# Altium schematic symbol library 686 1xx 144 22.SchLib: 17 symbols
Pins are listed as number, name and electrical type; pins without a type are passive.

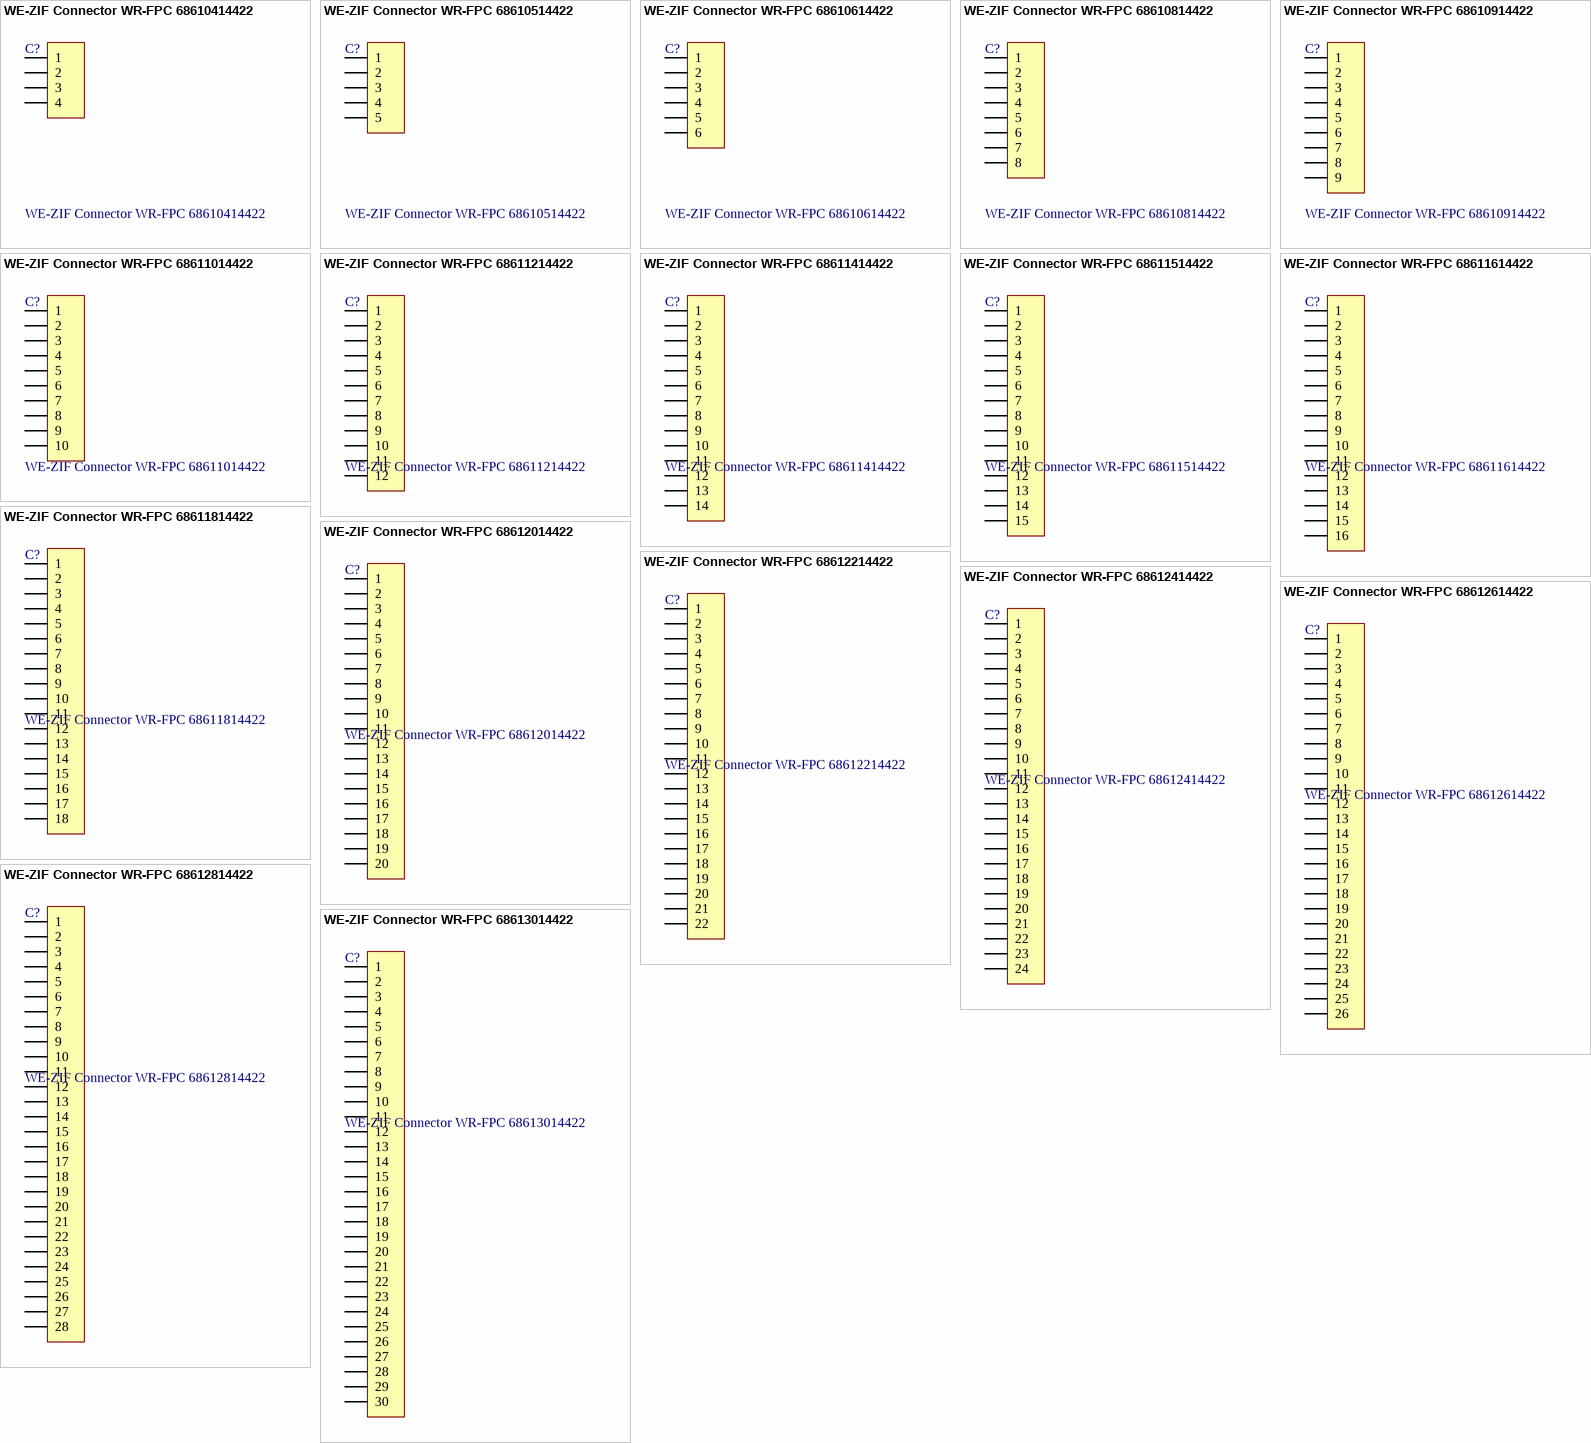
[diagram p0: symbols WE-ZIF Connector WR-FPC 68610414422 to WE-ZIF Connector WR-FPC 68613014422]

## WE-ZIF Connector WR-FPC 68610414422
designator C?
WR-FPC 1.00mm SMT ZIF Horizontal Bottom Contact; Manufacturer: Würth Elektronik eiSos GmbH; ComponentLink1 Description: Manufacturer; ComponentLink2 Description: Datasheet; NoPins: 04; Created Date: 9 October 2013; partNo: 68610414422; ComponentLink1URL: http://www.we-online.com; ComponentLink2URL: http://katalog.we-online.de/em/datasheet/6861xx14422.pdf; Created by: Karrer Zheng
footprint 68610414422 (4 pins)
pins: 1, 2, 3, 4

## WE-ZIF Connector WR-FPC 68610514422
designator C?
WR-FPC 1.00mm SMT ZIF Horizontal Bottom Contact; Manufacturer: Würth Elektronik eiSos GmbH; ComponentLink1 Description: Manufacturer; ComponentLink2 Description: Datasheet; NoPins: 05; Created Date: 9 October 2013; partNo: 68610514422; ComponentLink1URL: http://www.we-online.com; ComponentLink2URL: http://katalog.we-online.de/em/datasheet/6861xx14422.pdf; Created by: Karrer Zheng
footprint 68610514422 (5 pins)
pins: 1, 2, 3, 4, 5

## WE-ZIF Connector WR-FPC 68610614422
designator C?
WR-FPC 1.00mm SMT ZIF Horizontal Bottom Contact; Manufacturer: Würth Elektronik eiSos GmbH; ComponentLink1 Description: Manufacturer; ComponentLink2 Description: Datasheet; NoPins: 06; Created Date: 9 October 2013; partNo: 68610614422; ComponentLink1URL: http://www.we-online.com; ComponentLink2URL: http://katalog.we-online.de/em/datasheet/6861xx14422.pdf; Created by: Karrer Zheng
footprint 68610614422 (6 pins)
pins: 1, 2, 3, 4, 5, 6

## WE-ZIF Connector WR-FPC 68610814422
designator C?
WR-FPC 1.00mm SMT ZIF Horizontal Bottom Contact; Manufacturer: Würth Elektronik eiSos GmbH; ComponentLink1 Description: Manufacturer; ComponentLink2 Description: Datasheet; NoPins: 08; Created Date: 9 October 2013; partNo: 68610814422; ComponentLink1URL: http://www.we-online.com; ComponentLink2URL: http://katalog.we-online.de/em/datasheet/6861xx14422.pdf; Created by: Karrer Zheng
footprint 68610814422 (8 pins)
pins: 1, 2, 3, 4, 5, 6, 7, 8

## WE-ZIF Connector WR-FPC 68610914422
designator C?
WR-FPC 1.00mm SMT ZIF Horizontal Bottom Contact; Manufacturer: Würth Elektronik eiSos GmbH; ComponentLink1 Description: Manufacturer; ComponentLink2 Description: Datasheet; NoPins: 09; Created Date: 9 October 2013; partNo: 68610914422; ComponentLink1URL: http://www.we-online.com; ComponentLink2URL: http://katalog.we-online.de/em/datasheet/6861xx14422.pdf; Created by: Karrer Zheng
footprint 68610914422 (9 pins)
pins: 1, 2, 3, 4, 5, 6, 7, 8, 9

## WE-ZIF Connector WR-FPC 68611014422
designator C?
WR-FPC 1.00mm SMT ZIF Horizontal Bottom Contact; Manufacturer: Würth Elektronik eiSos GmbH; ComponentLink1 Description: Manufacturer; ComponentLink2 Description: Datasheet; NoPins: 10; Created Date: 9 October 2013; partNo: 68611014422; ComponentLink1URL: http://www.we-online.com; ComponentLink2URL: http://katalog.we-online.de/em/datasheet/6861xx14422.pdf; Created by: Karrer Zheng
footprint 68611014422 (10 pins)
pins: 1, 2, 3, 4, 5, 6, 7, 8, 9, 10

## WE-ZIF Connector WR-FPC 68611214422
designator C?
WR-FPC 1.00mm SMT ZIF Horizontal Bottom Contact; Manufacturer: Würth Elektronik eiSos GmbH; ComponentLink1 Description: Manufacturer; ComponentLink2 Description: Datasheet; NoPins: 12; Created Date: 9 October 2013; partNo: 68611214422; ComponentLink1URL: http://www.we-online.com; ComponentLink2URL: http://katalog.we-online.de/em/datasheet/6861xx14422.pdf; Created by: Karrer Zheng
footprint 68611214422 (12 pins)
pins: 1, 2, 3, 4, 5, 6, 7, 8, 9, 10, 11, 12

## WE-ZIF Connector WR-FPC 68611414422
designator C?
WR-FPC 1.00mm SMT ZIF Horizontal Bottom Contact; Manufacturer: Würth Elektronik eiSos GmbH; ComponentLink1 Description: Manufacturer; ComponentLink2 Description: Datasheet; NoPins: 14; Created Date: 9 October 2013; partNo: 68611414422; ComponentLink1URL: http://www.we-online.com; ComponentLink2URL: http://katalog.we-online.de/em/datasheet/6861xx14422.pdf; Created by: Karrer Zheng
footprint 68611414422 (14 pins)
pins: 1, 2, 3, 4, 5, 6, 7, 8, 9, 10, 11, 12, 13, 14

## WE-ZIF Connector WR-FPC 68611514422
designator C?
WR-FPC 1.00mm SMT ZIF Horizontal Bottom Contact; Manufacturer: Würth Elektronik eiSos GmbH; ComponentLink1 Description: Manufacturer; ComponentLink2 Description: Datasheet; NoPins: 15; Created Date: 9 October 2013; partNo: 68611514422; ComponentLink1URL: http://www.we-online.com; ComponentLink2URL: http://katalog.we-online.de/em/datasheet/6861xx14422.pdf; Created by: Karrer Zheng
footprint 68611514422 (15 pins)
pins: 1, 2, 3, 4, 5, 6, 7, 8, 9, 10, 11, 12, 13, 14, 15

## WE-ZIF Connector WR-FPC 68611614422
designator C?
WR-FPC 1.00mm SMT ZIF Horizontal Bottom Contact; Manufacturer: Würth Elektronik eiSos GmbH; ComponentLink1 Description: Manufacturer; ComponentLink2 Description: Datasheet; NoPins: 16; Created Date: 9 October 2013; partNo: 68611614422; ComponentLink1URL: http://www.we-online.com; ComponentLink2URL: http://katalog.we-online.de/em/datasheet/6861xx14422.pdf; Created by: Karrer Zheng
footprint 68611614422 (16 pins)
pins: 1, 2, 3, 4, 5, 6, 7, 8, 9, 10, 11, 12, 13, 14, 15, 16

## WE-ZIF Connector WR-FPC 68611814422
designator C?
WR-FPC 1.00mm SMT ZIF Horizontal Bottom Contact; Manufacturer: Würth Elektronik eiSos GmbH; ComponentLink1 Description: Manufacturer; ComponentLink2 Description: Datasheet; NoPins: 18; Created Date: 9 October 2013; partNo: 68611814422; ComponentLink1URL: http://www.we-online.com; ComponentLink2URL: http://katalog.we-online.de/em/datasheet/6861xx14422.pdf; Created by: Karrer Zheng
footprint 68611814422 (18 pins)
pins: 1, 2, 3, 4, 5, 6, 7, 8, 9, 10, 11, 12, 13, 14, 15, 16, 17, 18

## WE-ZIF Connector WR-FPC 68612014422
designator C?
WR-FPC 1.00mm SMT ZIF Horizontal Bottom Contact; Manufacturer: Würth Elektronik eiSos GmbH; ComponentLink1 Description: Manufacturer; ComponentLink2 Description: Datasheet; NoPins: 20; Created Date: 9 October 2013; partNo: 68612014422; ComponentLink1URL: http://www.we-online.com; ComponentLink2URL: http://katalog.we-online.de/em/datasheet/6861xx14422.pdf; Created by: Karrer Zheng
footprint 68612014422 (20 pins)
pins: 1, 2, 3, 4, 5, 6, 7, 8, 9, 10, 11, 12, 13, 14, 15, 16, 17, 18, 19, 20

## WE-ZIF Connector WR-FPC 68612214422
designator C?
WR-FPC 1.00mm SMT ZIF Horizontal Bottom Contact; Manufacturer: Würth Elektronik eiSos GmbH; ComponentLink1 Description: Manufacturer; ComponentLink2 Description: Datasheet; NoPins: 22; Created Date: 9 October 2013; partNo: 68612214422; ComponentLink1URL: http://www.we-online.com; ComponentLink2URL: http://katalog.we-online.de/em/datasheet/6861xx14422.pdf; Created by: Karrer Zheng
footprint 68612214422 (22 pins)
pins: 1, 2, 3, 4, 5, 6, 7, 8, 9, 10, 11, 12, 13, 14, 15, 16, 17, 18, 19, 20, 21, 22

## WE-ZIF Connector WR-FPC 68612414422
designator C?
WR-FPC 1.00mm SMT ZIF Horizontal Bottom Contact; Manufacturer: Würth Elektronik eiSos GmbH; ComponentLink1 Description: Manufacturer; ComponentLink2 Description: Datasheet; NoPins: 24; Created Date: 9 October 2013; partNo: 68612414422; ComponentLink1URL: http://www.we-online.com; ComponentLink2URL: http://katalog.we-online.de/em/datasheet/6861xx14422.pdf; Created by: Karrer Zheng
footprint 68612414422 (24 pins)
pins: 1, 2, 3, 4, 5, 6, 7, 8, 9, 10, 11, 12, 13, 14, 15, 16, 17, 18, 19, 20, 21, 22, 23, 24

## WE-ZIF Connector WR-FPC 68612614422
designator C?
WR-FPC 1.00mm SMT ZIF Horizontal Bottom Contact; Manufacturer: Würth Elektronik eiSos GmbH; ComponentLink1 Description: Manufacturer; ComponentLink2 Description: Datasheet; NoPins: 26; Created Date: 9 October 2013; partNo: 68612614422; ComponentLink1URL: http://www.we-online.com; ComponentLink2URL: http://katalog.we-online.de/em/datasheet/6861xx14422.pdf; Created by: Karrer Zheng
footprint 68612614422 (26 pins)
pins: 1, 2, 3, 4, 5, 6, 7, 8, 9, 10, 11, 12, 13, 14, 15, 16, 17, 18, 19, 20, 21, 22, 23, 24, 25, 26

## WE-ZIF Connector WR-FPC 68612814422
designator C?
WR-FPC 1.00mm SMT ZIF Horizontal Bottom Contact; Manufacturer: Würth Elektronik eiSos GmbH; ComponentLink1 Description: Manufacturer; ComponentLink2 Description: Datasheet; NoPins: 28; Created Date: 9 October 2013; partNo: 68612814422; ComponentLink1URL: http://www.we-online.com; ComponentLink2URL: http://katalog.we-online.de/em/datasheet/6861xx14422.pdf; Created by: Karrer Zheng
footprint 68612814422 (28 pins)
pins: 1, 2, 3, 4, 5, 6, 7, 8, 9, 10, 11, 12, 13, 14, 15, 16, 17, 18, 19, 20, 21, 22, 23, 24, 25, 26, 27, 28

## WE-ZIF Connector WR-FPC 68613014422
designator C?
WR-FPC 1.00mm SMT ZIF Horizontal Bottom Contact; Manufacturer: Würth Elektronik eiSos GmbH; ComponentLink1 Description: Manufacturer; ComponentLink2 Description: Datasheet; NoPins: 30; Created Date: 9 October 2013; partNo: 68613014422; ComponentLink1URL: http://www.we-online.com; ComponentLink2URL: http://katalog.we-online.de/em/datasheet/6861xx14422.pdf; Created by: Karrer Zheng
footprint 68613014422 (30 pins)
pins: 1, 2, 3, 4, 5, 6, 7, 8, 9, 10, 11, 12, 13, 14, 15, 16, 17, 18, 19, 20, 21, 22, 23, 24, 25, 26, 27, 28, 29, 30